# EAGLE library part 74*332 (library iStivi - ICs)
Single 3-Input OR gate
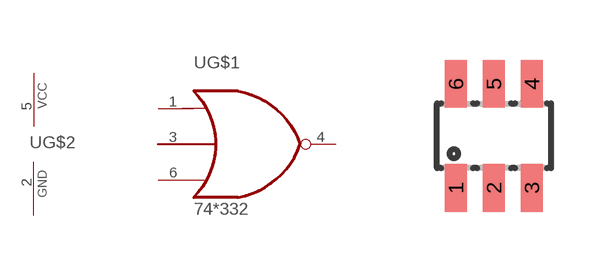
[diagram p20: symbol with the pads of SOT23-6; footprint SOT23-6]

Designator prefix -; gates G$1=74332 G$2=PWRN

## 74332SOT23-6  [SOT23-6]
1  G$1:I0  in
2  G$2:GND  pwr
3  G$1:I1  in
4  G$1:O  out
5  G$2:VCC  pwr
6  G$1:I2  in

## Footprint SOT23-6 (pad centres in mm)
Small Outline Transistor
smd 0.55 x 1.2: 1 -0.95,-1.3; 2 0,-1.3; 3 0.95,-1.3; 4 0.95,1.3; 5 0,1.3; 6 -0.95,1.3